# EAGLE library part SKW75 (library BaseApp)
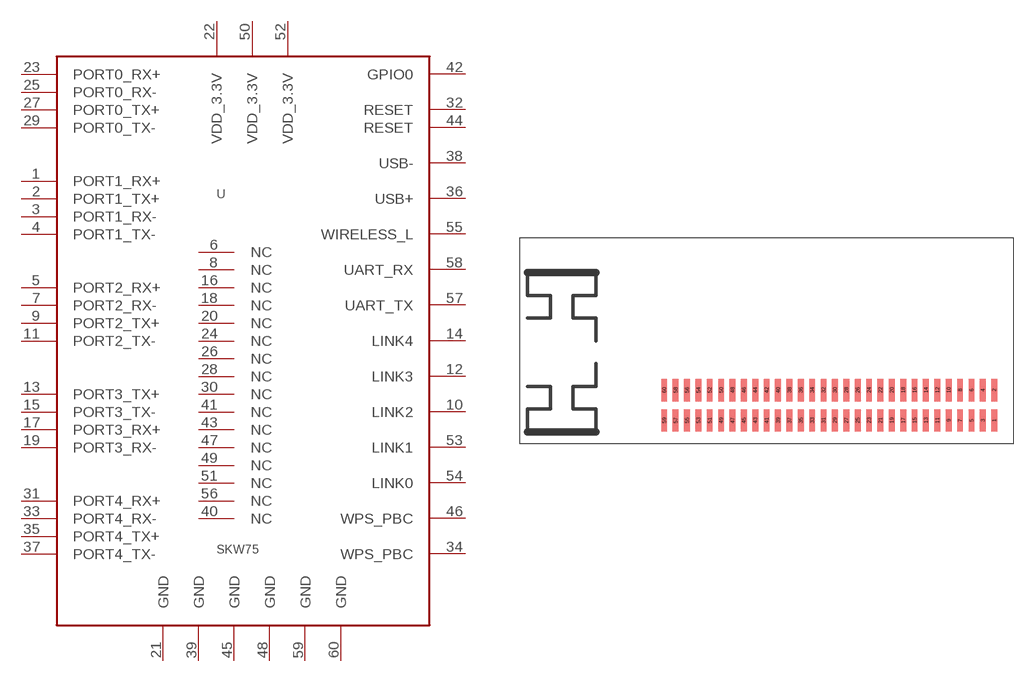
[diagram p143: symbol with the pads of SKW75; footprint SKW75]

Designator prefix -

## SKW75  [SKW75]
1  PORT1_RX+
2  PORT1_TX+
3  PORT1_RX-
4  PORT1_TX-
5  PORT2_RX+
6  NC
7  PORT2_RX-
8  NC
9  PORT2_TX+
10  LINK2
11  PORT2_TX-
12  LINK3
13  PORT3_TX+
14  LINK4
15  PORT3_TX-
16  NC
17  PORT3_RX+
18  NC
19  PORT3_RX-
20  NC
21  GND
22  VDD_3.3V
23  PORT0_RX+
24  NC
25  PORT0_RX-
26  NC
27  PORT0_TX+
28  NC
29  PORT0_TX-
30  NC
31  PORT4_RX+
32  RESET
33  PORT4_RX-
34  WPS_PBC
35  PORT4_TX+
36  USB+
37  PORT4_TX-
38  USB-
39  GND
40  NC
41  NC
42  GPIO0
43  NC
44  RESET
45  GND
46  WPS_PBC
47  NC
48  GND
49  NC
50  VDD_3.3V
51  NC
52  VDD_3.3V
53  LINK1
54  LINK0
55  WIRELESS_L
56  NC
57  UART_TX
58  UART_RX
59  GND
60  GND

## Footprint SKW75 (pad centres in mm)
smd 0.65 x 2.5: 1 25.4,-8.89; 2 25.4,-5.505; 3 24.13,-8.89; 4 24.13,-5.505; 5 22.86,-8.89; 6 22.86,-5.505; 7 21.59,-8.89; 8 21.59,-5.505; 9 20.32,-8.89; 10 20.32,-5.505; 11 19.05,-8.89; 12 19.05,-5.505; 13 17.78,-8.89; 14 17.78,-5.505; 15 16.51,-8.89; 16 16.51,-5.505; 17 15.24,-8.89; 18 15.24,-5.505; 19 13.97,-8.89; 20 13.97,-5.505; 21 12.7,-8.89; 22 12.7,-5.505; 23 11.43,-8.89; 24 11.43,-5.505; 25 10.16,-8.89; 26 10.16,-5.505; 27 8.89,-8.89; 28 8.89,-5.505; 29 7.62,-8.89; 30 7.62,-5.505; 31 6.35,-8.89; 32 6.35,-5.505; 33 5.08,-8.89; 34 5.08,-5.505; 35 3.81,-8.89; 36 3.81,-5.505; 37 2.54,-8.89; 38 2.54,-5.505; 39 1.27,-8.89; 40 1.27,-5.505; 41 0,-8.89; 42 0,-5.505; 43 -1.27,-8.89; 44 -1.27,-5.505; 45 -2.54,-8.89; 46 -2.54,-5.505; 47 -3.81,-8.89; 48 -3.81,-5.505; 49 -5.08,-8.89; 50 -5.08,-5.505; 51 -6.35,-8.89; 52 -6.35,-5.505; 53 -7.62,-8.89; 54 -7.62,-5.505; 55 -8.89,-8.89; 56 -8.89,-5.505; 57 -10.16,-8.89; 58 -10.16,-5.505; 59 -11.43,-8.89; 60 -11.43,-5.505